# Altium footprint library Varistor.PcbLib: 1 footprints
Each footprint in its own frame and in the unit in brackets; x right, y up, seen from the top. Pads: shape width x height; smd on the part's side, far side on the other; paste and mask are expansions set on the pad; w line width, h text height; cw(c..) or ccw(c..) is an arc to the next point about the centre after c.
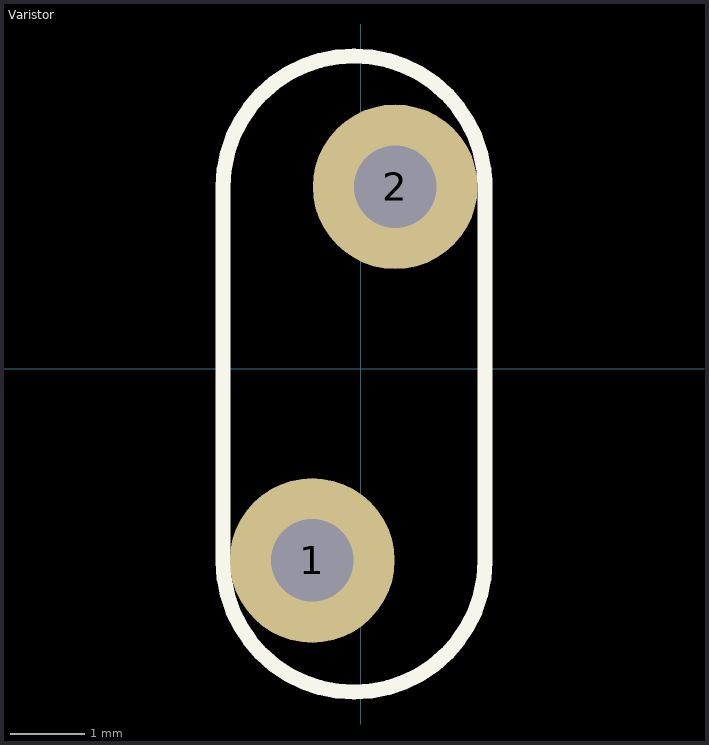
[diagram p0: the footprint, top view; thin cyan lines are the x and y axes]

## Varistor [mm]
pads (2):
  round 2.2 hole 1.1: 1(-0.645,-2.56) 2(0.463,2.43)
Top Overlay:
  lines w0.2: 1.663,2.43 ccw(c-0.087,2.43) -1.837,2.43 -1.837,-2.57 ccw(c-0.087,-2.57) 1.663,-2.57 1.663,2.53